# Altium schematic symbol library ADM3486E.Schlib: 1 symbol
Pins are listed as number, name and electrical type; pins without a type are passive.

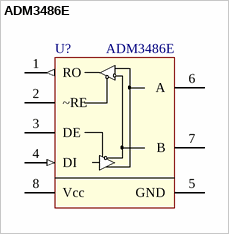
[diagram p0: symbol ADM3486E]

## ADM3486E
designator U?
Назначение: драйвер RS-485; Наименование: ADM3486E
footprint SO-8
pins: 1 RO (out), 2 ~RE, 3 DE, 4 DI (in), 5 GND, 6 A, 7 B, 8 Vcc